# Altium schematic symbol library Devices.SchLib: 20 symbols
Pins are listed as number, name and electrical type; pins without a type are passive.

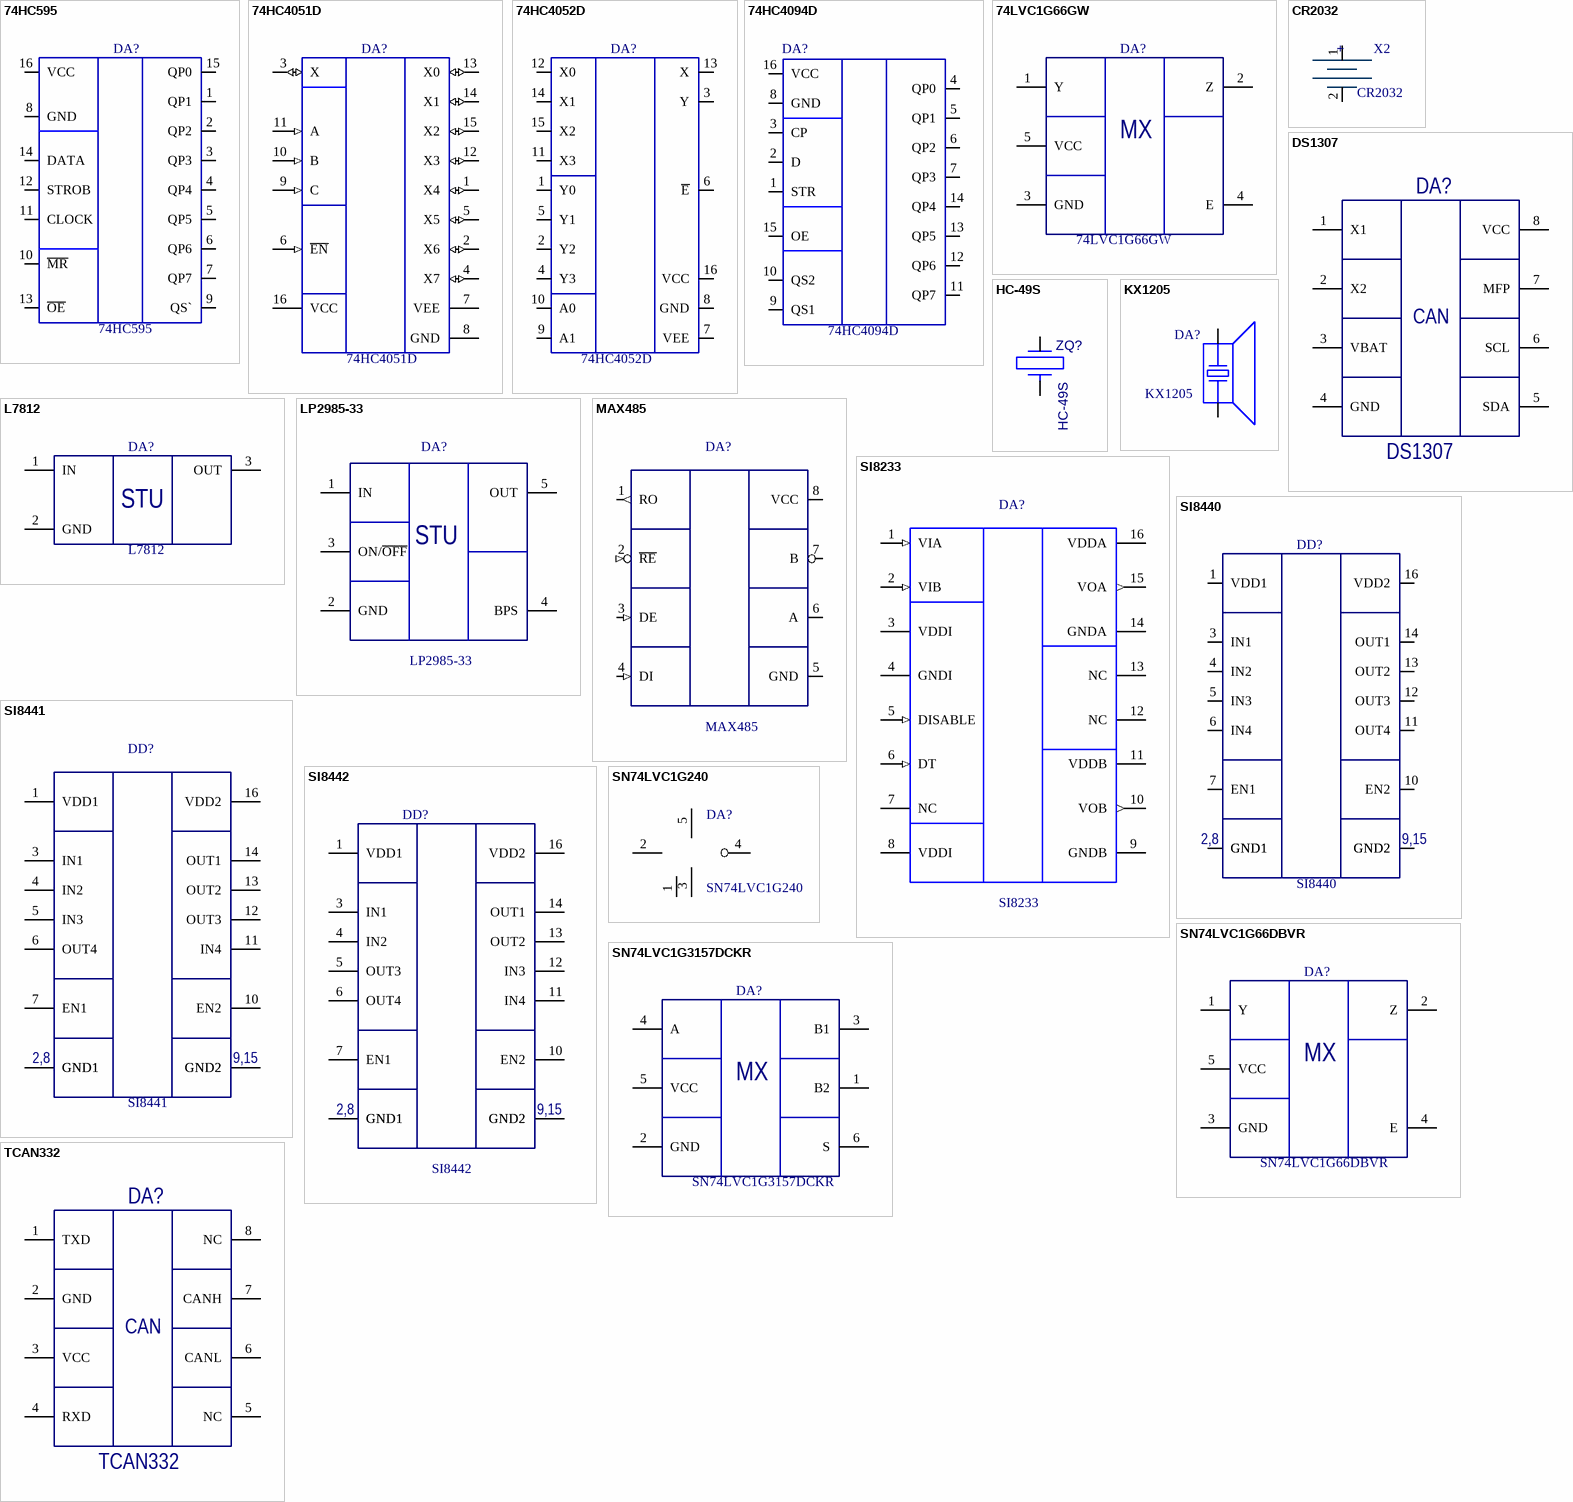
[diagram p0: symbols 74HC595 to TCAN332]

## 74HC595
designator DA?
ComponentDescription: 74HC595
footprint SOIC127P600X175-16N (SOIC, 16-Leads, Body 9,90x3,90mm, Pitch 1,27mm, IPC Medium Density)
pins: 1 QP1, 2 QP2, 3 QP3, 4 QP4, 5 QP5, 6 QP6, 7 QP7, 8 GND, 9 QS`, 10 ~{MR}, 11 CLOCK, 12 STROB, 13 ~{OE}, 14 DATA, 15 QP0, 16 VCC

## 74HC4051D
designator DA?
ComponentDescription: 74HC4051D
footprint SOIC127P600X175-16N (SOIC, 16-Leads, Body 9,90x3,90mm, Pitch 1,27mm, IPC Medium Density)
pins: 1 X4 (io), 2 X6 (io), 3 X (io), 4 X7 (io), 5 X5 (io), 6 ~{EN} (in), 7 VEE (power), 8 GND (power), 9 C (in), 10 B (in), 11 A (in), 12 X3 (io), 13 X0 (io), 14 X1 (io), 15 X2 (io), 16 VCC (power)

## 74HC4052D
designator DA?
ComponentDescription: 74HC4052D
footprint SOIC127P600X175-16N (SOIC, 16-Leads, Body 9,90x3,90mm, Pitch 1,27mm, IPC Medium Density)
pins: 1 Y0, 2 Y2, 3 Y, 4 Y3, 5 Y1, 6 ~{E}, 7 VEE, 8 GND, 9 A1, 10 A0, 11 X3, 12 X0, 13 X, 14 X1, 15 X2, 16 VCC

## 74HC4094D
designator DA?
ComponentDescription: 74HC4094D
footprint SOIC127P600X175-16N (SOIC, 16-Leads, Body 9,90x3,90mm, Pitch 1,27mm, IPC Medium Density)
pins: 1 STR, 2 D, 3 CP, 4 QP0, 5 QP1, 6 QP2, 7 QP3, 8 GND, 9 QS1, 10 QS2, 11 QP7, 12 QP6, 13 QP5, 14 QP4, 15 OE, 16 VCC

## 74LVC1G66GW
designator DA?
ComponentDescription: 74LVC1G66GW
footprint SOTFL65P210X110-5N (SOTFL, 6-Leads, Body 2,00x2,10mm, Pitch 0,65mm, IPC Medium Density)
pins: 1 Y, 2 Z, 3 GND, 4 E, 5 VCC
text: MX

## CR2032
designator X2
footprint CR2032
pins: 1, 2
text: +

## DS1307
designator DA?
ComponentDescription: DS1307
footprint SOIC127P600X175-8N (SOIC, 8-Leads, Body 4,90x3,90mm, Pitch 1,27mm, IPC Medium Density)
pins: 1 X1, 2 X2, 3 VBAT, 4 GND, 5 SDA, 6 SCL, 7 MFP, 8 VCC
text: CAN

## HC-49S
designator ZQ?
ComponentDescription: Кварц. HC-49S; Value: HC-49S
footprint HC-49S
pins: 1, 2

## KX1205
designator DA?
footprint KX1205
pins: 1 ZUM+, 2 ZUM-

## L7812
designator DA?
ComponentDescription: L7812
footprint TO220
pins: 1 IN, 2 GND, 3 OUT
text: STU

## LP2985-33
designator DA?
Linear regulator 3,3V 100mA micro power; ComponentDescription: LP2985-33
footprint SOT95P230X110-5N (SOT23, 5-Leads, Body 2,90x2,30mm, Pitch 0,95mm, IPC Medium Density)
pins: 1 IN, 2 GND, 3 ON/~{OFF}, 4 BPS, 5 OUT
text: STU

## MAX485
designator DA?
ComponentDescription: MAX485
footprint SOIC127P600X175-8N (SOIC, 8-Leads, Body 4,90x3,90mm, Pitch 1,27mm, IPC Medium Density)
pins: 1 RO (out), 2 ~{RE} (in), 3 DE (in), 4 DI (in), 5 GND (power), 6 A, 7 B, 8 VCC (power)

## SI8233
designator DA?
ComponentDescription: SI8233
footprint SOIC127P600X175-16N (SOIC, 16-Leads, Body 9,90x3,90mm, Pitch 1,27mm, IPC Medium Density)
pins: 1 VIA (in) "Non-inverting logic input terminal for Driver A.", 2 VIB (in) "Non-inverting logic input terminal for Driver B.", 3 VDDI (power) "Input-side power supply terminal; connect to a source of 4.5 to 5.5 V.", 4 GNDI (power) "Input-side ground terminal.", 5 DISABLE (in) "Device Disable. When high, this input unconditionally drives outputs VOA, VOB LOW. It is strongly recommended that this input be connected to external logic level to avoid erroneous operation due to capacitive noise coupling.", 6 DT (in) "Dead time programming input. The value of the resistor connected from DT to ground sets the dead time between output transitions of VOA and VOB. Defaults to 1 ns dead time when connected to VDDI or left open (see "3.8. (See Datasheet)", 7 NC "No connection.", 8 VDDI (power) "Input-side power supply terminal; connect to a source of 4.5 to 5.5 V.", 9 GNDB (power) "Ground terminal for Driver B.", 10 VOB (out) "Driver B output", 11 VDDB (power) "Driver B power supply voltage terminal; connect to a source of 6.5 to 24 V.", 12 NC "No connection.", 13 NC "No connection.", 14 GNDA (power) "Ground terminal for Driver A.", 15 VOA (out) "Driver A output", 16 VDDA (power) "Driver A power supply voltage terminal; connect to a source of 6.5 to 24 V."

## SI8440
designator DD?
Digital Isolator; ComponentDescription: SI8440
footprint ADUM141x (SOIC, 16-Leads, Body 10,30x7,50mm, Pitch 1,27mm, IPC Medium Density)
pins: 1 VDD1, 2 GND1, 3 IN1, 4 IN2, 5 IN3, 6 IN4, 7 EN1, 8 GND1, 9 GND2, 10 EN2, 11 OUT4, 12 OUT3, 13 OUT2, 14 OUT1, 15 GND2, 16 VDD2
1 alternate drawing of the same symbol
text: 2,8; 9,15

## SI8441
designator DD?
Digital Isolator; ComponentDescription: SI8441
footprint ADUM141x (SOIC, 16-Leads, Body 10,30x7,50mm, Pitch 1,27mm, IPC Medium Density)
pins: 1 VDD1, 2 GND1, 3 IN1, 4 IN2, 5 IN3, 6 OUT4, 7 EN1, 8 GND1, 9 GND2, 10 EN2, 11 IN4, 12 OUT3, 13 OUT2, 14 OUT1, 15 GND2, 16 VDD2
1 alternate drawing of the same symbol
text: 2,8; 9,15

## SI8442
designator DD?
Digital Isolator; ComponentDescription: SI8442
footprint ADUM141x (SOIC, 16-Leads, Body 10,30x7,50mm, Pitch 1,27mm, IPC Medium Density)
pins: 1 VDD1, 2 GND1, 3 IN1, 4 IN2, 5 OUT3, 6 OUT4, 7 EN1, 8 GND1, 9 GND2, 10 EN2, 11 IN4, 12 IN3, 13 OUT2, 14 OUT1, 15 GND2, 16 VDD2
text: 2,8; 9,15

## SN74LVC1G66DBVR
designator DA?
ComponentDescription: SN74LVC1G66DBVR
footprint SOT95P230X110-5N (SOT23, 5-Leads, Body 2,90x2,30mm, Pitch 0,95mm, IPC Medium Density)
pins: 1 Y, 2 Z, 3 GND, 4 E, 5 VCC
text: MX

## SN74LVC1G240
designator DA?
ComponentDescription: SN74LVC1G240
footprint SOT95P230X110-5N (SOT23, 5-Leads, Body 2,90x2,30mm, Pitch 0,95mm, IPC Medium Density)
pins: 1 EN, 2 In, 3 EN, 4 Out, 5 EN

## SN74LVC1G3157DCKR
designator DA?
ComponentDescription: SN74LVC1G3157DCKR
footprint SOT95P230X110-6N (SOT23, 5-Leads, Body 2,90x2,30mm, Pitch 0,95mm, IPC Medium Density)
pins: 1 B2, 2 GND, 3 B1, 4 A, 5 VCC, 6 S
text: MX

## TCAN332
designator DA?
ComponentDescription: TCAN332
footprint SOIC127P600X175-8N (SOIC, 8-Leads, Body 4,90x3,90mm, Pitch 1,27mm, IPC Medium Density)
pins: 1 TXD, 2 GND, 3 VCC, 4 RXD, 5 NC, 6 CANL, 7 CANH, 8 NC
text: CAN